# Altium schematic symbol library SMA.SchLib: 1 symbol
Pins are listed as number, name and electrical type; pins without a type are passive.

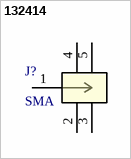
[diagram p0: symbol 132414]

## 132414
designator J?, comment SMA
No Description Available; Mfr_Name: Amphenol ICC; Manufacturer_Part_Number: 132414; Copyright: Copyright (C) 2022 Ultra Librarian. All rights reserved.; RefDes: RefDes; Type: DEV
footprint CONN_132414_AMP
pins: 1, 2, 3, 4, 5